# Altium footprint library MOLEX_0524373071.PcbLib: 1 footprints
Each footprint in its own frame and in the unit in brackets; x right, y up, seen from the top. Pads: shape width x height; smd on the part's side, far side on the other; paste and mask are expansions set on the pad; w line width, h text height; cw(c..) or ccw(c..) is an arc to the next point about the centre after c.
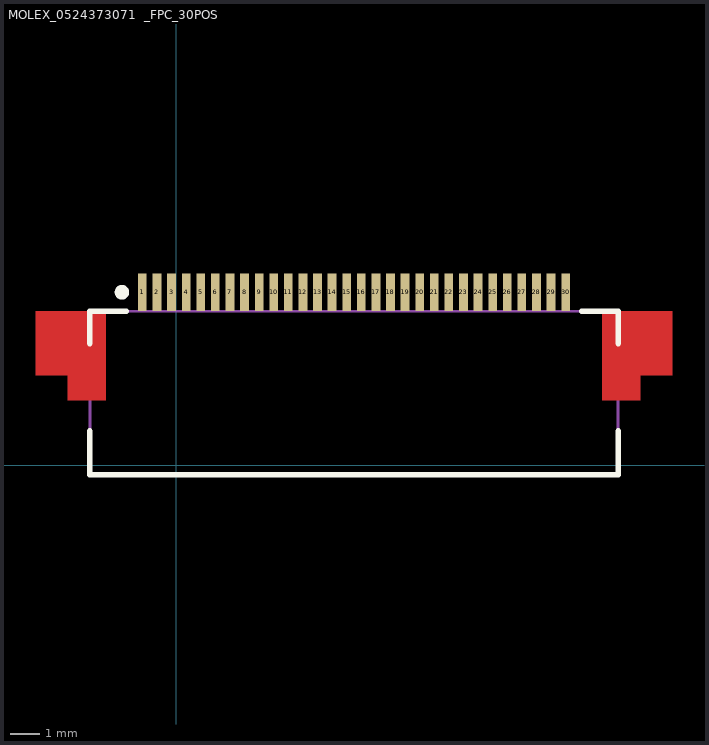
[diagram p0: the footprint, top view; thin cyan lines are the x and y axes]

## MOLEX_0524373071  _FPC_30POS [mm]
pads (30):
  rect 0.3x1.3 smd: 1(-1.162,5.926) 2(-0.662,5.926) 3(-0.162,5.926) 4(0.338,5.926) 5(0.838,5.926) 6(1.338,5.926) 7(1.838,5.926) 8(2.338,5.926) 9(2.838,5.926) 10(3.338,5.926) 11(3.838,5.926) 12(4.338,5.926) 13(4.838,5.926) 14(5.338,5.926) 15(5.838,5.926) 16(6.338,5.926) 17(6.838,5.926) 18(7.338,5.926) 19(7.838,5.926) 20(8.338,5.926) 21(8.838,5.926) 22(9.338,5.926) 23(9.838,5.926) 24(10.338,5.926) 25(10.838,5.926) 26(11.338,5.926) 27(11.838,5.926) 28(12.338,5.926) 29(12.838,5.926) 30(13.338,5.926)
Top Layer:
  region: -2.412,5.276 -2.412,2.226 -3.712,2.226 -3.712,3.076 -4.812,3.076 -4.812,5.276
  region: 14.588,5.276 14.588,2.226 15.888,2.226 15.888,3.076 16.988,3.076 16.988,5.276
Top Overlay:
  circle w0.25: c-1.862,5.926 r0.125
  lines w0.2: -2.962,1.176 -2.962,-0.324 15.138,-0.324 15.138,1.176 ; -2.962,4.176 -2.962,5.276 -1.712,5.276 ; 13.888,5.276 15.138,5.276 15.138,4.176
Top Paste:
  region: -2.412,5.276 -2.412,2.226 -3.712,2.226 -3.712,3.076 -4.812,3.076 -4.812,5.276
  region: 14.588,5.276 14.588,2.226 15.888,2.226 15.888,3.076 16.988,3.076 16.988,5.276
Top Solder:
  region: -2.412,5.276 -2.412,2.226 -3.712,2.226 -3.712,3.076 -4.812,3.076 -4.812,5.276
  region: 14.588,5.276 14.588,2.226 15.888,2.226 15.888,3.076 16.988,3.076 16.988,5.276
Mechanical 13:
  lines w0.1: -2.962,-0.324 15.138,-0.324 15.138,5.276 -2.962,5.276 -2.962,-0.324
3D body: height 2, standoff 0, extent -2.962,-0.324 15.138,5.276
3D body "524373071.stp": height 2, standoff -0.04, extent -4.704,1.088 16.896,6.288